# EAGLE library part TMS320VC5402 (library mytexas)
Fixed-Point Digital Signal Processor Source: tms320vc5402.pdf
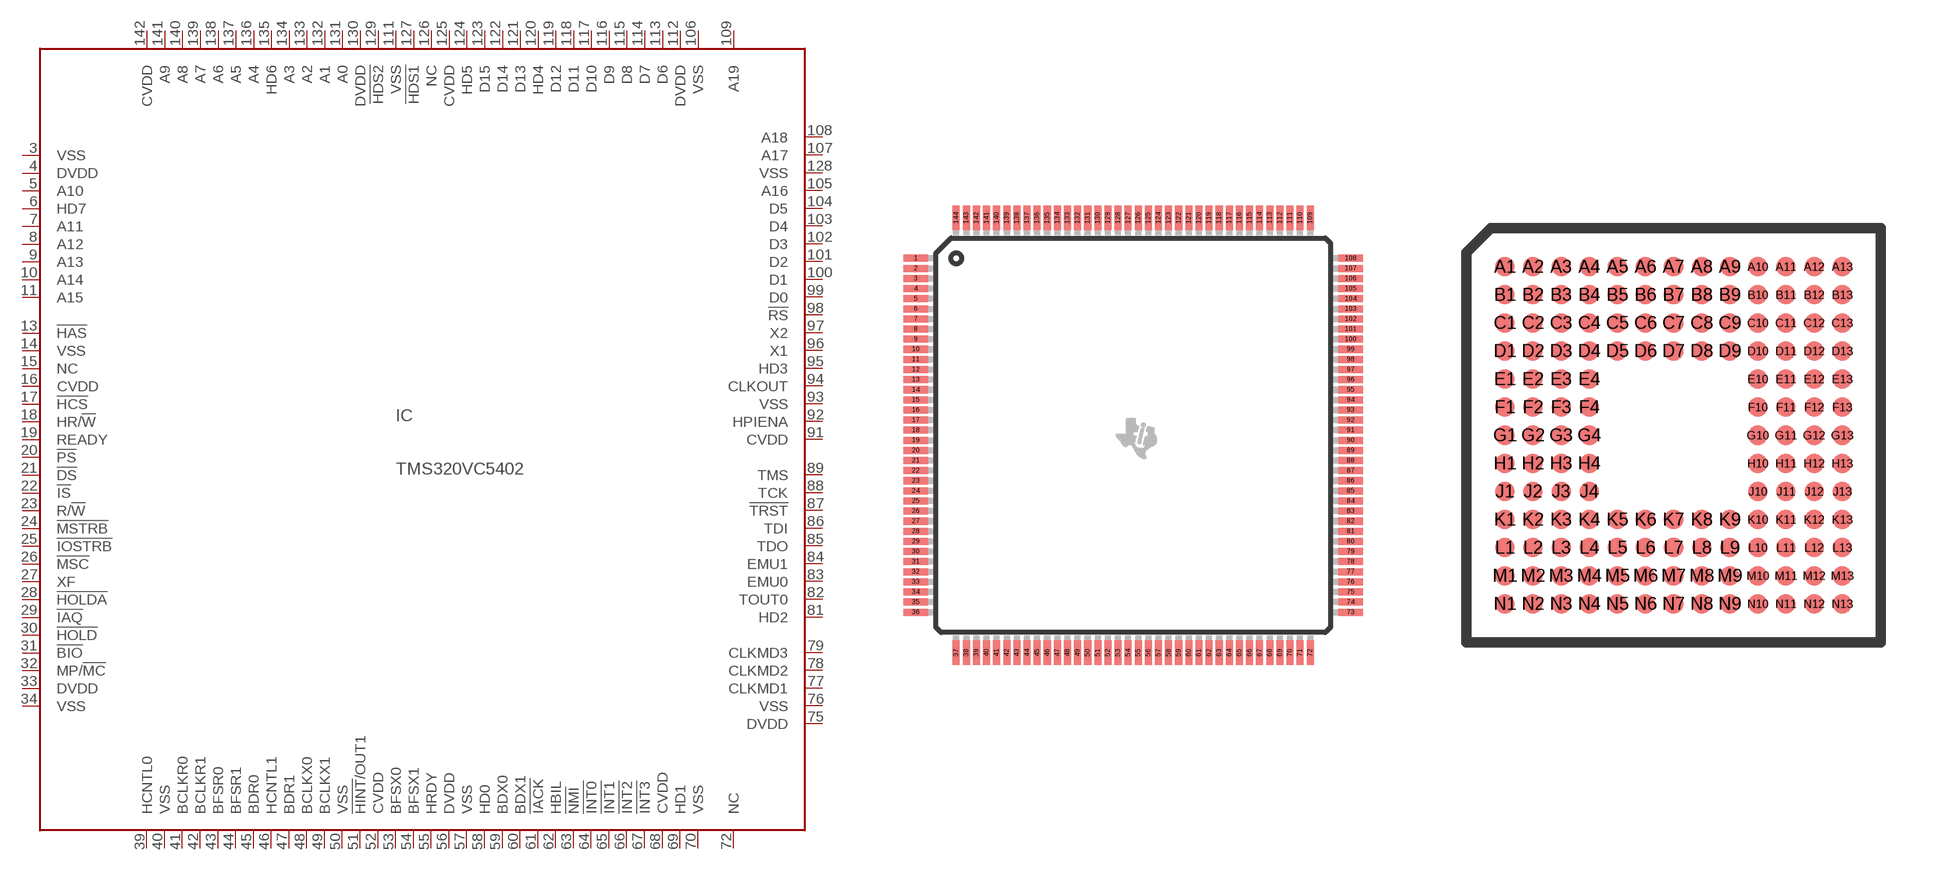
[diagram p26: symbol with the pads of PQFP144; footprints PQFP144, PBGA144]

Designator prefix IC

## TMS320VC5402PGE  [PQFP144]
1  NC  nc
2  NC  nc
3  VSS  pwr
4  DVDD  pwr
5  A10  hiz
6  HD7  hiz
7  A11  hiz
8  A12  hiz
9  A13  hiz
10  A14  hiz
11  A15  hiz
12  NC  nc
13  !HAS  in
14  VSS  pwr
15  NC  nc
16  CVDD  pwr
17  !HCS  in
18  HR/!W  in
19  READY  in
20  !PS  hiz
21  !DS  hiz
22  !IS  hiz
23  R/!W  hiz
24  !MSTRB  hiz
25  !IOSTRB  hiz
26  !MSC  hiz
27  XF  hiz
28  !HOLDA  hiz
29  !IAQ  hiz
30  !HOLD  in
31  !BIO  in
32  MP/!MC  in
33  DVDD  pwr
34  VSS  pwr
35  NC  nc
36  NC  nc
37  NC  nc
38  NC  nc
39  HCNTL0  in
40  VSS  pwr
41  BCLKR0  hiz
42  BCLKR1  hiz
43  BFSR0  hiz
44  BFSR1  hiz
45  BDR0  in
46  HCNTL1  in
47  BDR1  in
48  BCLKX0  hiz
49  BCLKX1  hiz
50  VSS  pwr
51  !HINT!/OUT1  hiz
52  CVDD  pwr
53  BFSX0  hiz
54  BFSX1  hiz
55  HRDY  hiz
56  DVDD  pwr
57  VSS  pwr
58  HD0  hiz
59  BDX0  hiz
60  BDX1  hiz
61  !IACK  hiz
62  HBIL  in
63  !NMI  in
64  !INT0  in
65  !INT1  in
66  !INT2  in
67  !INT3  in
68  CVDD  pwr
69  HD1  hiz
70  VSS  pwr
71  NC  nc
72  NC  nc
73  NC  nc
74  NC  nc
75  DVDD  pwr
76  VSS  pwr
77  CLKMD1  in
78  CLKMD2  in
79  CLKMD3  in
80  NC  nc
81  HD2  hiz
82  TOUT0  hiz
83  EMU0  hiz
84  EMU1  hiz
85  TDO  hiz
86  TDI  in
87  !TRST  in
88  TCK  in
89  TMS  in
90  NC  nc
91  CVDD  pwr
92  HPIENA  in
93  VSS  nc
94  CLKOUT  hiz
95  HD3  hiz
96  X1  out
97  X2  in
98  !RS  in
99  D0  hiz
100  D1  hiz
101  D2  hiz
102  D3  hiz
103  D4  hiz
104  D5  hiz
105  A16  hiz
106  VSS  pwr
107  A17  hiz
108  A18  hiz
109  A19  hiz
110  NC  nc
111  VSS  pwr
112  DVDD  pwr
113  D6  hiz
114  D7  hiz
115  D8  hiz
116  D9  hiz
117  D10  hiz
118  D11  hiz
119  D12  hiz
120  HD4  hiz
121  D13  hiz
122  D14  hiz
123  D15  hiz
124  HD5  hiz
125  CVDD  pwr
126  NC  nc
127  !HDS1  in
128  VSS  pwr
129  !HDS2  in
130  DVDD  pwr
131  A0  hiz
132  A1  hiz
133  A2  hiz
134  A3  hiz
135  HD6  hiz
136  A4  hiz
137  A5  hiz
138  A6  hiz
139  A7  hiz
140  A8  hiz
141  A9  hiz
142  CVDD  pwr
143  NC  nc
144  NC  nc

## TMS320VC5402GGU  [PBGA144]
A1  NC  nc
A2  NC  nc
A3  A8  hiz
A4  A5  hiz
A5  A2  hiz
A6  !HDS2  in
A7  NC  nc
A8  HD5  hiz
A9  HD4  hiz
A10  D9  hiz
A11  DVDD  pwr
A12  NC  nc
A13  A19  hiz
B1  NC  nc
B2  NC  nc
B3  A9  hiz
B4  A6  hiz
B5  A3  hiz
B6  DVDD  pwr
B7  CVDD  pwr
B8  D15  hiz
B9  D12  hiz
B10  D8  hiz
B11  VSS  pwr
B12  A18  hiz
B13  A17  hiz
C1  DVDD  pwr
C2  VSS  pwr
C3  CVDD  pwr
C4  A7  hiz
C5  HD6  hiz
C6  A0  hiz
C7  !HDS1  in
C8  D14  hiz
C9  D11  hiz
C10  D7  hiz
C11  VSS  pwr
C12  A16  hiz
C13  D5  hiz
D1  A12  hiz
D2  A11  hiz
D3  HD7  hiz
D4  A10  hiz
D5  A4  hiz
D6  A1  hiz
D7  VSS  pwr
D8  D13  hiz
D9  D10  hiz
D10  D6  hiz
D11  D4  hiz
D12  D3  hiz
D13  D2  hiz
E1  NC  nc
E2  A15  hiz
E3  A14  hiz
E4  A13  hiz
E10  D1  hiz
E11  D0  hiz
E12  !RS  in
E13  X2  in
F1  CVDD  pwr
F2  NC  nc
F3  VSS  pwr
F4  !HAS  in
F10  X1  out
F11  HD3  hiz
F12  CLKOUT  hiz
F13  VSS  pwr
G1  HR/!W  in
G2  !HCS  in
G3  READY  in
G4  !PS  hiz
G10  HPIENA  in
G11  CVDD  pwr
G12  TMS  in
G13  NC  nc
H1  !DS  hiz
H2  !IS  hiz
H3  R/!W  hiz
H4  !MSTRB  hiz
H10  TDO  hiz
H11  TDI  in
H12  !TRST  in
H13  TCK  in
J1  !IOSTRB  hiz
J2  !MSC  hiz
J3  XF  hiz
J4  !HOLDA  hiz
J10  HD2  hiz
J11  TOUT0  hiz
J12  EMU0  hiz
J13  EMU1  hiz
K1  !IAQ  hiz
K2  !HOLD  in
K3  !BIO  in
K4  BCLKR0  hiz
K5  BDR0  in
K6  BCLKX1  hiz
K7  DVDD  pwr
K8  BDX1  hiz
K9  !INT0  in
K10  CLKMD1  in
K11  CLKMD2  in
K12  CLKMD3  in
K13  NC  nc
L1  MP/!MC  in
L2  DVDD  pwr
L3  VSS  pwr
L4  BCLKR1  hiz
L5  HCNTL1  in
L6  VSS  nc
L7  HRDY  hiz
L8  BDX0  hiz
L9  !NMI  in
L10  !INT3  in
L11  VSS  pwr
L12  DVDD  pwr
L13  VSS  pwr
M1  NC  nc
M2  NC  nc
M3  HCNTL0  in
M4  BFSR0  hiz
M5  BDR1  in
M6  !HINT!/OUT1  hiz
M7  BFSX0  hiz
M8  HD0  hiz
M9  HBIL  in
M10  !INT2  in
M11  HD1  hiz
M12  NC  nc
M13  NC  nc
N1  NC  nc
N2  NC  nc
N3  VSS  pwr
N4  BFSR1  hiz
N5  BCLKX0  hiz
N6  CVDD  pwr
N7  BFSX1  hiz
N8  VSS  pwr
N9  !IACK  hiz
N10  !INT1  in
N11  CVDD  pwr
N12  NC  nc
N13  NC  nc

## Footprint PQFP144 (pad centres in mm)
Platic Quad Flat Package PGE (S-PQFP-G144)
smd 1.2 x 0.35: 1 -10.75,8.75; 2 -10.75,8.25; 3 -10.75,7.75; 4 -10.75,7.25; 5 -10.75,6.75; 6 -10.75,6.25; 7 -10.75,5.75; 8 -10.75,5.25; 9 -10.75,4.75; 10 -10.75,4.25; 11 -10.75,3.75; 12 -10.75,3.25; 13 -10.75,2.75; 14 -10.75,2.25; 15 -10.75,1.75; 16 -10.75,1.25; 17 -10.75,0.75; 18 -10.75,0.25; 19 -10.75,-0.25; 20 -10.75,-0.75; 21 -10.75,-1.25; 22 -10.75,-1.75; 23 -10.75,-2.25; 24 -10.75,-2.75; 25 -10.75,-3.25; 26 -10.75,-3.75; 27 -10.75,-4.25; 28 -10.75,-4.75; 29 -10.75,-5.25; 30 -10.75,-5.75; 31 -10.75,-6.25; 32 -10.75,-6.75; 33 -10.75,-7.25; 34 -10.75,-7.75; 35 -10.75,-8.25; 36 -10.75,-8.75; 73 10.75,-8.75; 74 10.75,-8.25; 75 10.75,-7.75; 76 10.75,-7.25; 77 10.75,-6.75; 78 10.75,-6.25; 79 10.75,-5.75; 80 10.75,-5.25; 81 10.75,-4.75; 82 10.75,-4.25; 83 10.75,-3.75; 84 10.75,-3.25; 85 10.75,-2.75; 86 10.75,-2.25; 87 10.75,-1.75; 88 10.75,-1.25; 89 10.75,-0.75; 90 10.75,-0.25; 91 10.75,0.25; 92 10.75,0.75; 93 10.75,1.25; 94 10.75,1.75; 95 10.75,2.25; 96 10.75,2.75; 97 10.75,3.25; 98 10.75,3.75; 99 10.75,4.25; 100 10.75,4.75; 101 10.75,5.25; 102 10.75,5.75; 103 10.75,6.25; 104 10.75,6.75; 105 10.75,7.25; 106 10.75,7.75; 107 10.75,8.25; 108 10.75,8.75
smd 0.35 x 1.2: 37 -8.75,-10.75; 38 -8.25,-10.75; 39 -7.75,-10.75; 40 -7.25,-10.75; 41 -6.75,-10.75; 42 -6.25,-10.75; 43 -5.75,-10.75; 44 -5.25,-10.75; 45 -4.75,-10.75; 46 -4.25,-10.75; 47 -3.75,-10.75; 48 -3.25,-10.75; 49 -2.75,-10.75; 50 -2.25,-10.75; 51 -1.75,-10.75; 52 -1.25,-10.75; 53 -0.75,-10.75; 54 -0.25,-10.75; 55 0.25,-10.75; 56 0.75,-10.75; 57 1.25,-10.75; 58 1.75,-10.75; 59 2.25,-10.75; 60 2.75,-10.75; 61 3.25,-10.75; 62 3.75,-10.75; 63 4.25,-10.75; 64 4.75,-10.75; 65 5.25,-10.75; 66 5.75,-10.75; 67 6.25,-10.75; 68 6.75,-10.75; 69 7.25,-10.75; 70 7.75,-10.75; 71 8.25,-10.75; 72 8.75,-10.75; 109 8.75,10.75; 110 8.25,10.75; 111 7.75,10.75; 112 7.25,10.75; 113 6.75,10.75; 114 6.25,10.75; 115 5.75,10.75; 116 5.25,10.75; 117 4.75,10.75; 118 4.25,10.75; 119 3.75,10.75; 120 3.25,10.75; 121 2.75,10.75; 122 2.25,10.75; 123 1.75,10.75; 124 1.25,10.75; 125 0.75,10.75; 126 0.25,10.75; 127 -0.25,10.75; 128 -0.75,10.75; 129 -1.25,10.75; 130 -1.75,10.75; 131 -2.25,10.75; 132 -2.75,10.75; 133 -3.25,10.75; 134 -3.75,10.75; 135 -4.25,10.75; 136 -4.75,10.75; 137 -5.25,10.75; 138 -5.75,10.75; 139 -6.25,10.75; 140 -6.75,10.75; 141 -7.25,10.75; 142 -7.75,10.75; 143 -8.25,10.75; 144 -8.75,10.75

## Footprint PBGA144 (pad centres in mm)
PLASTIC BALL GRID ARRAY PACKAGE GGU (S-PBGA-N144) Source: tms320vc5402.pdf
smd 0.55 x 0.55: A1 -4.8,4.8; A2 -4,4.8; A3 -3.2,4.8; A4 -2.4,4.8; A5 -1.6,4.8; A6 -0.8,4.8; A7 0,4.8; A8 0.8,4.8; A9 1.6,4.8; A10 2.4,4.8; A11 3.2,4.8; A12 4,4.8; A13 4.8,4.8; B1 -4.8,4; B2 -4,4; B3 -3.2,4; B4 -2.4,4; B5 -1.6,4; B6 -0.8,4; B7 0,4; B8 0.8,4; B9 1.6,4; B10 2.4,4; B11 3.2,4; B12 4,4; B13 4.8,4; C1 -4.8,3.2; C2 -4,3.2; C3 -3.2,3.2; C4 -2.4,3.2; C5 -1.6,3.2; C6 -0.8,3.2; C7 0,3.2; C8 0.8,3.2; C9 1.6,3.2; C10 2.4,3.2; C11 3.2,3.2; C12 4,3.2; C13 4.8,3.2; D1 -4.8,2.4; D2 -4,2.4; D3 -3.2,2.4; D4 -2.4,2.4; D5 -1.6,2.4; D6 -0.8,2.4; D7 0,2.4; D8 0.8,2.4; D9 1.6,2.4; D10 2.4,2.4; D11 3.2,2.4; D12 4,2.4; D13 4.8,2.4; E1 -4.8,1.6; E2 -4,1.6; E3 -3.2,1.6; E4 -2.4,1.6; E10 2.4,1.6; E11 3.2,1.6; E12 4,1.6; E13 4.8,1.6; F1 -4.8,0.8; F2 -4,0.8; F3 -3.2,0.8; F4 -2.4,0.8; F10 2.4,0.8; F11 3.2,0.8; F12 4,0.8; F13 4.8,0.8; G1 -4.8,0; G2 -4,0; G3 -3.2,0; G4 -2.4,0; G10 2.4,0; G11 3.2,0; G12 4,0; G13 4.8,0; H1 -4.8,-0.8; H2 -4,-0.8; H3 -3.2,-0.8; H4 -2.4,-0.8; H10 2.4,-0.8; H11 3.2,-0.8; H12 4,-0.8; H13 4.8,-0.8; J1 -4.8,-1.6; J2 -4,-1.6; J3 -3.2,-1.6; J4 -2.4,-1.6; J10 2.4,-1.6; J11 3.2,-1.6; J12 4,-1.6; J13 4.8,-1.6; K1 -4.8,-2.4; K2 -4,-2.4; K3 -3.2,-2.4; K4 -2.4,-2.4; K5 -1.6,-2.4; K6 -0.8,-2.4; K7 0,-2.4; K8 0.8,-2.4; K9 1.6,-2.4; K10 2.4,-2.4; K11 3.2,-2.4; K12 4,-2.4; K13 4.8,-2.4; L1 -4.8,-3.2; L2 -4,-3.2; L3 -3.2,-3.2; L4 -2.4,-3.2; L5 -1.6,-3.2; L6 -0.8,-3.2; L7 0,-3.2; L8 0.8,-3.2; L9 1.6,-3.2; L10 2.4,-3.2; L11 3.2,-3.2; L12 4,-3.2; L13 4.8,-3.2; M1 -4.8,-4; M2 -4,-4; M3 -3.2,-4; M4 -2.4,-4; M5 -1.6,-4; M6 -0.8,-4; M7 0,-4; M8 0.8,-4; M9 1.6,-4; M10 2.4,-4; M11 3.2,-4; M12 4,-4; M13 4.8,-4; N1 -4.8,-4.8; N2 -4,-4.8; N3 -3.2,-4.8; N4 -2.4,-4.8; N5 -1.6,-4.8; N6 -0.8,-4.8; N7 0,-4.8; N8 0.8,-4.8; N9 1.6,-4.8; N10 2.4,-4.8; N11 3.2,-4.8; N12 4,-4.8; N13 4.8,-4.8